# Altium footprint library Fuse.PcbLib: 5 footprints
Each footprint in its own frame and in the unit in brackets; x right, y up, seen from the top. Pads: shape width x height; smd on the part's side, far side on the other; paste and mask are expansions set on the pad; w line width, h text height; cw(c..) or ccw(c..) is an arc to the next point about the centre after c.
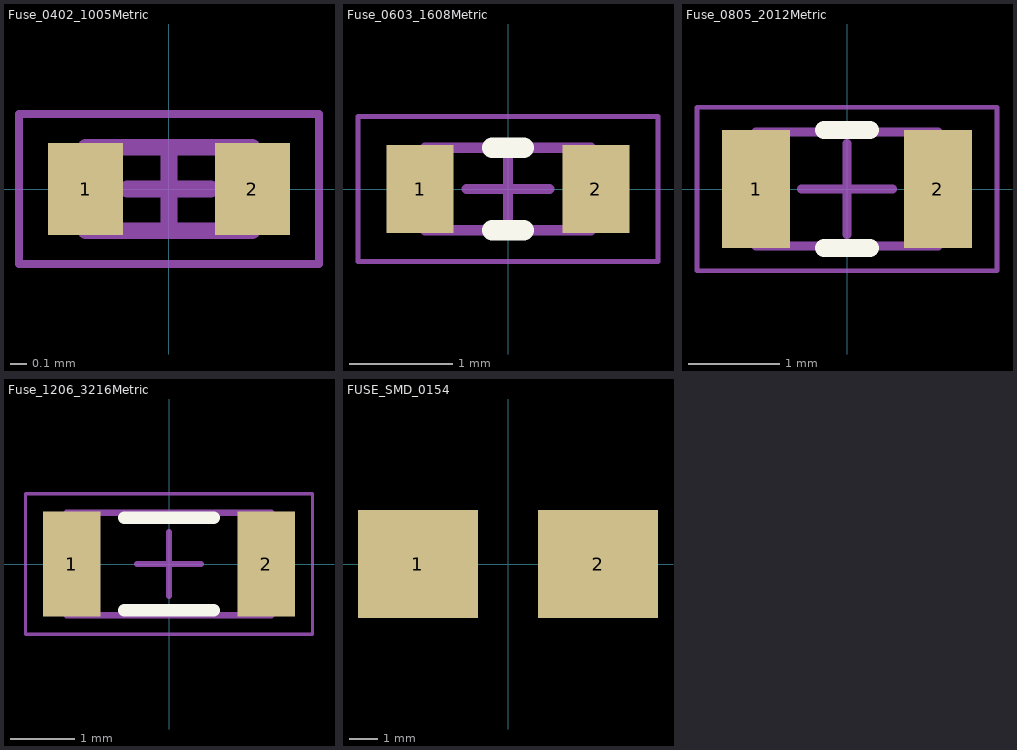
[diagram p0: the footprints below, top view; thin cyan lines are the x and y axes]

## Fuse_0402_1005Metric [mm] "Chip Resistor, 2-Leads, Body 1.00x0.50mm, IPC Medium Density"
height 0.5
pads (2):
  rect 0.45x0.55 smd: 1(-0.5,0) 2(0.5,0)
Mechanical 13:
  lines w0.1: -0.5,-0.25 0.5,-0.25 0.5,0.25 -0.5,0.25 -0.5,-0.25
Mechanical 15:
  lines w0.05: -0.9,-0.45 0.9,-0.45 0.9,0.45 -0.9,0.45 -0.9,-0.45
  lines w0.1: -0.25,0 0.25,0 ; 0,-0.25 0,0.25
3D body: height 0.33, standoff 0, extent 0.3,-0.25 0.5,0.25
3D body: height 0.33, standoff 0, extent -0.5,-0.25 -0.3,0.25
3D body: height 0.32, standoff 0, extent -0.3,-0.25 0.3,0.25

## Fuse_0603_1608Metric [mm] "Chip Resistor, 2-Leads, Body 1.60x0.80mm, IPC Medium Density"
height 0.45
pads (2):
  rect 0.65x0.85 smd: 1(-0.85,0) 2(0.85,0)
Top Overlay:
  lines w0.2: -0.15,-0.4 0.15,-0.4 ; -0.15,0.4 0.15,0.4
Mechanical 13:
  lines w0.1: -0.8,-0.4 -0.8,0.4 0.8,0.4 0.8,-0.4 -0.8,-0.4
Mechanical 15:
  lines w0.05: -1.45,-0.7 -1.45,0.7 1.45,0.7 1.45,-0.7 -1.45,-0.7
  lines w0.1: -0.4,0 0.4,0 ; 0,-0.4 0,0.4
3D body: height 0.45, standoff 0, extent -0.55,-0.4 0.55,0.4
3D body: height 0.45, standoff 0, extent -0.8,-0.4 -0.55,0.4
3D body: height 0.45, standoff 0, extent 0.55,-0.4 0.8,0.4

## Fuse_0805_2012Metric [mm] "Chip Resistor, 2-Leads, Body 2.00x1.25mm, IPC Medium Density"
height 0.5
pads (2):
  rect 0.75x1.3 smd: 1(-1,0) 2(1,0)
Top Overlay:
  lines w0.2: -0.25,-0.65 0.25,-0.65 ; -0.25,0.65 0.25,0.65
Mechanical 13:
  lines w0.1: -1,-0.625 -1,0.625 1,0.625 1,-0.625 -1,-0.625
Mechanical 15:
  lines w0.05: -1.65,-0.9 -1.65,0.9 1.65,0.9 1.65,-0.9 -1.65,-0.9
  lines w0.1: -0.5,0 0.5,0 ; 0,-0.5 0,0.5
3D body "RESC2012X05N.step": height 0.5, standoff 0, extent -1,-0.625 1,0.625

## Fuse_1206_3216Metric [mm] "Chip Resistor, 2-Leads, Body 3.20x1.60mm, IPC Medium Density"
height 1.1
pads (2):
  rect 0.9x1.65 smd: 1(-1.525,0) 2(1.525,0)
Top Overlay:
  lines w0.2: -0.7,-0.725 0.7,-0.725 ; -0.7,0.725 0.7,0.725
Mechanical 13:
  lines w0.1: -1.6,-0.8 1.6,-0.8 1.6,0.8 -1.6,0.8 -1.6,-0.8
Mechanical 15:
  lines w0.05: -2.25,-1.1 2.25,-1.1 2.25,1.1 -2.25,1.1 -2.25,-1.1
  lines w0.1: -0.5,0 0.5,0 ; 0,-0.5 0,0.5
3D body "RESC3216X11N.step": height 1.1, standoff 0, extent -1.6,-0.8 1.6,0.8

## FUSE_SMD_0154 [mm]
pads (2):
  rect 4.24x3.81 smd: 1(-3.185,0) 2(3.185,0)